# EAGLE library part 25/2 (library FHD-Connectors)
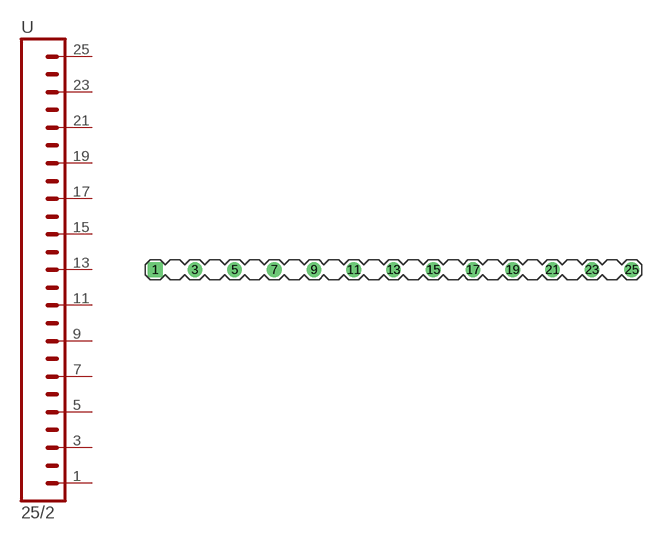
[diagram p4: symbol with the pads of 1X25; footprint 1X25]

Designator prefix -

## 25/2  [1X25]
1  1  pas
3  3  pas
5  5  pas
7  7  pas
9  9  pas
11  11  pas
13  13  pas
15  15  pas
17  17  pas
19  19  pas
21  21  pas
23  23  pas
25  25  pas

## Footprint 1X25 (pad centres in mm)
drill 1.016 pad 1.88 square: 1 0,0
drill 1.016 pad 1.88: 3 5.08,0; 5 10.16,0; 7 15.24,0; 9 20.32,0; 11 25.4,0; 13 30.48,0; 15 35.56,0; 17 40.64,0; 19 45.72,0; 21 50.8,0; 23 55.88,0; 25 60.96,0